# Altium schematic symbol library MC34063.SchLib: 1 symbol
Pins are listed as number, name and electrical type; pins without a type are passive.

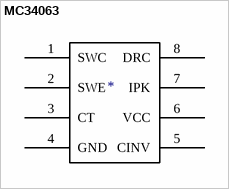
[diagram p0: symbol MC34063]

## MC34063
designator *
footprint PDIP-8
pins: 1 SWC, 2 SWE, 3 CT, 4 GND, 5 CINV, 6 VCC, 7 IPK, 8 DRC